# Altium schematic symbol library allegro-pwr.SchLib: 1 symbol
Pins are listed as number, name and electrical type; pins without a type are passive.

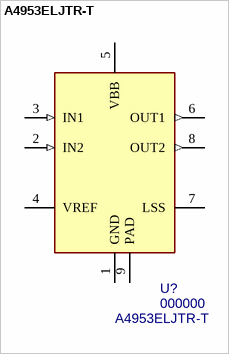
[diagram p0: symbol A4953ELJTR-T]

## A4953ELJTR-T
designator U?, comment 000000  value A4953ELJTR-T
Package: SOICN-8; PN: 000000; ExtraInfo: *
footprint SOICN-8 (8-Pin SOICN with wxposed thermal pad)
pins: 1 GND (power), 2 IN2 (in), 3 IN1 (in), 4 VREF (hiz), 5 VBB (power), 6 OUT1 (out), 7 LSS (hiz), 8 OUT2 (out), 9 PAD (power)